# EAGLE library part PIC18F12*0 (library microchip-pic18)
18/20/28-Pin High-Performance, Enhanced Flash Microcontrollers Motor control
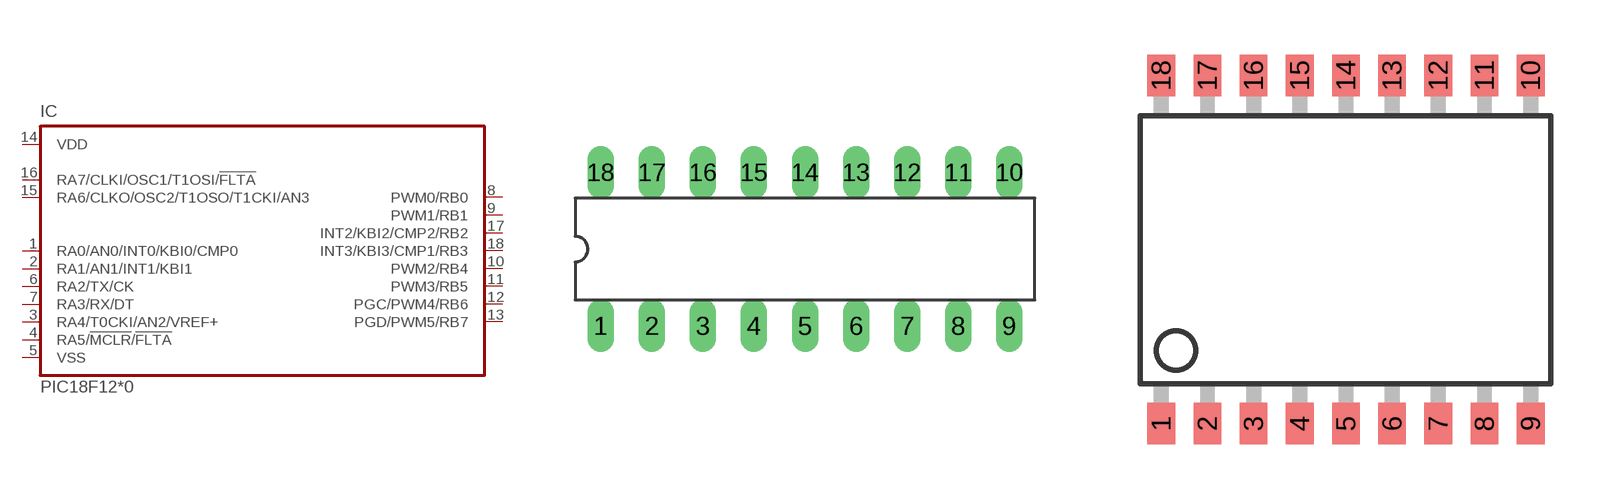
[diagram p5: symbol with the pads of DIL18; footprints DIL18, SO-18W]

Designator prefix IC

## PIC18F1220P, PIC18F1230P  [DIL18]
1  RA0/AN0/INT0/KBI0/CMP0
2  RA1/AN1/INT1/KBI1
3  RA4/T0CKI/AN2/VREF+
4  RA5/!MCLR!/!FLTA  in
5  VSS  pwr
6  RA2/TX/CK
7  RA3/RX/DT
8  PWM0/RB0
9  PWM1/RB1
10  PWM2/RB4
11  PWM3/RB5
12  PGC/PWM4/RB6
13  PGD/PWM5/RB7
14  VDD  pwr
15  RA6/CLKO/OSC2/T1OSO/T1CKI/AN3
16  RA7/CLKI/OSC1/T1OSI/!FLTA
17  INT2/KBI2/CMP2/RB2
18  INT3/KBI3/CMP1/RB3

## PIC18F1220SO, PIC18F1230SO  [SO-18W]
Pads as for DIL18

## Footprint DIL18 (pad centres in mm)
Dual In Line package type P
drill 0.813 long: 1 -10.16,-3.81; 2 -7.62,-3.81; 3 -5.08,-3.81; 4 -2.54,-3.81; 5 0,-3.81; 6 2.54,-3.81; 7 5.08,-3.81; 8 7.62,-3.81; 9 10.16,-3.81; 10 10.16,3.81; 11 7.62,3.81; 12 5.08,3.81; 13 2.54,3.81; 14 0,3.81; 15 -2.54,3.81; 16 -5.08,3.81; 17 -7.62,3.81; 18 -10.16,3.81

## Footprint SO-18W (pad centres in mm)
Small Outline Wide Plastic Gull Wing 300-mil body, package type SO
smd 0.762 x 1.143: 1 -5.08,-4.788; 2 -3.81,-4.788; 3 -2.54,-4.788; 4 -1.27,-4.788; 5 0,-4.788; 6 1.27,-4.788; 7 2.54,-4.788; 8 3.81,-4.788; 9 5.08,-4.788; 10 5.08,4.788; 11 3.81,4.788; 12 2.54,4.788; 13 1.27,4.788; 14 0,4.788; 15 -1.27,4.788; 16 -2.54,4.788; 17 -3.81,4.788; 18 -5.08,4.788